# Altium footprint library Capacitors_rus.PCBLIB: 349 footprints (part 2 of 22)
Each footprint in its own frame and in the unit in brackets; x right, y up, seen from the top. Pads: shape width x height; smd on the part's side, far side on the other; paste and mask are expansions set on the pad; w line width, h text height; cw(c..) or ccw(c..) is an arc to the next point about the centre after c.
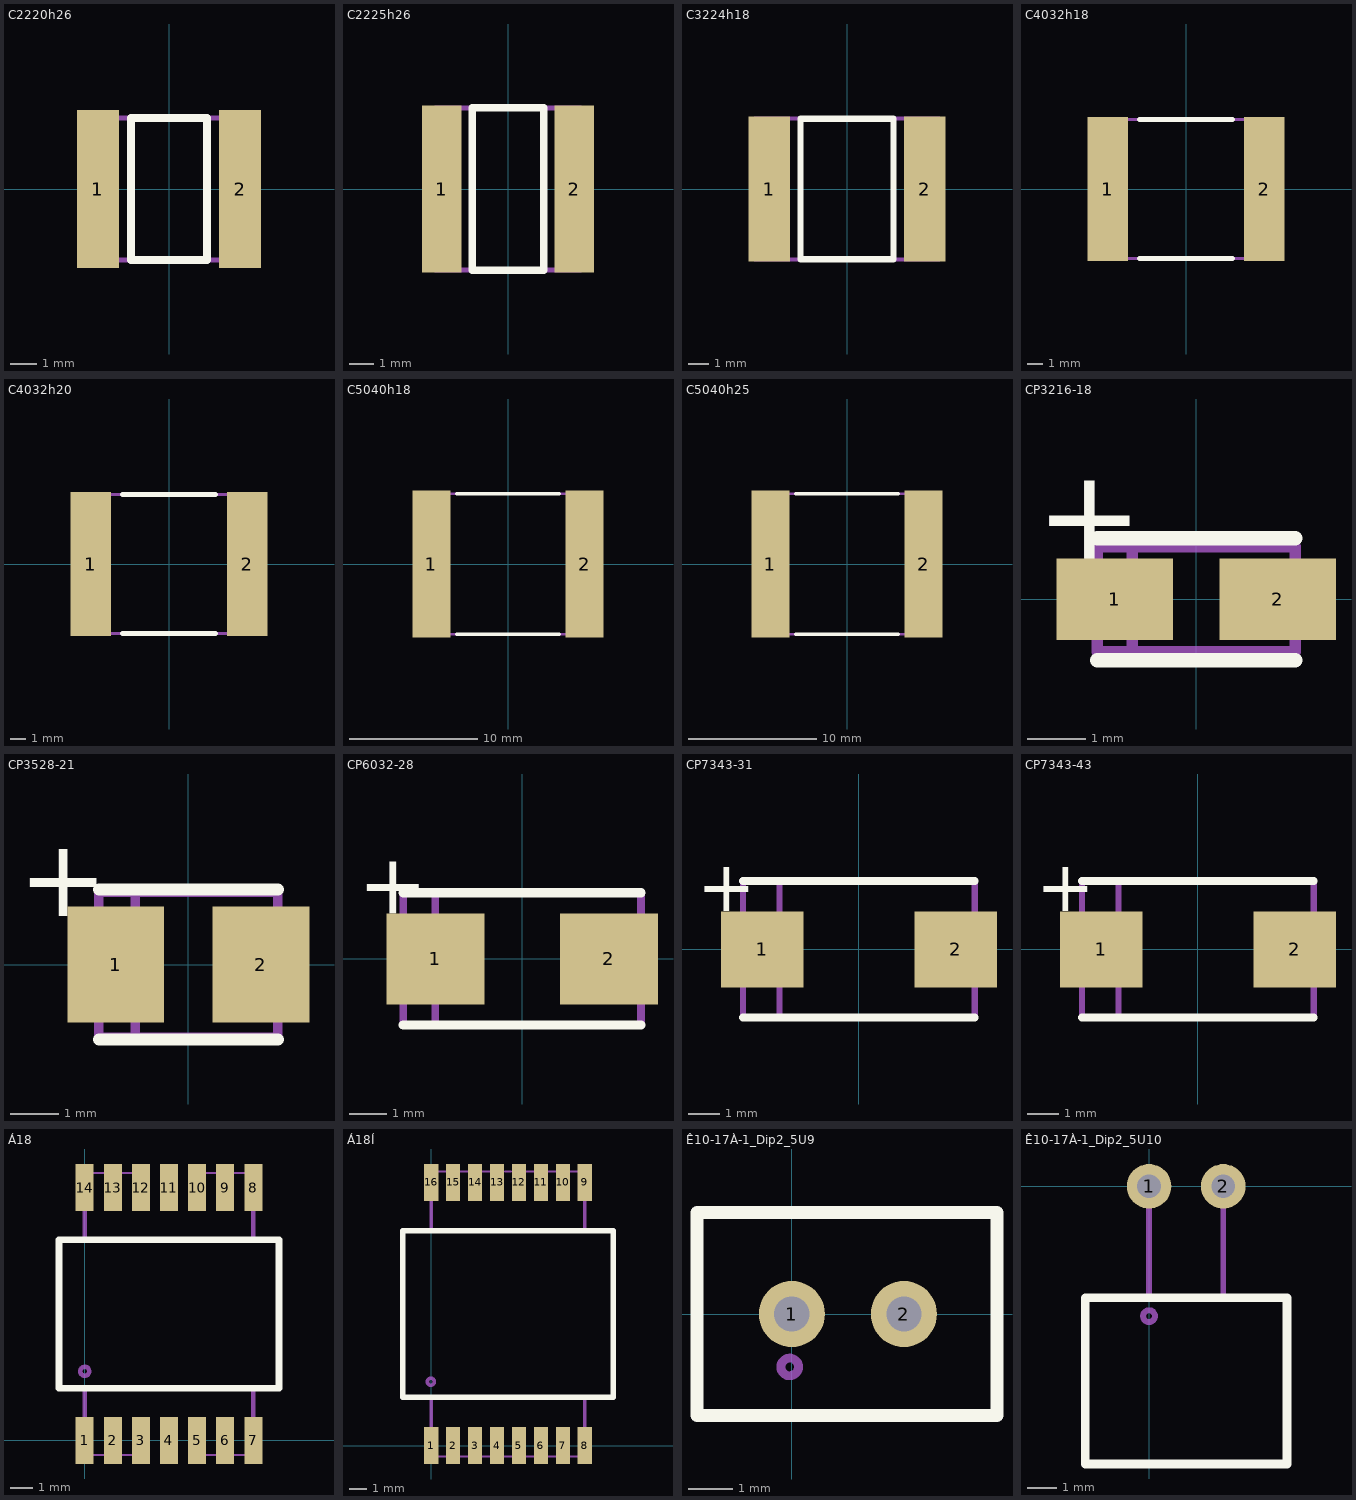
[diagram p1: the footprints below, top view; thin cyan lines are the x and y axes]

## C2220h26 [mm]
height 2.6
pads (2):
  rect 1.6x6 smd: 1(-2.7,0) 2(2.7,0)
Top Overlay:
  lines w0.3: -1.45,-2.7 1.45,-2.7 1.45,2.7 -1.45,2.7 -1.45,-2.7
Mechanical 1:
  circle w0.1: c-2.4,-0.05 r0.1
  lines w0.2: -2.95,-2.7 2.95,-2.7 2.95,2.7 -2.95,2.7 -2.95,-2.7
  text ".Designator" at -2.12,-0.5 h1.5
3D body: height 2.6, standoff 0, extent -2.95,-2.6 2.95,2.6

## C2225h26 [mm]
height 2.6
pads (2):
  rect 1.6x6.8 smd: 1(-2.7,0) 2(2.7,0)
Top Overlay:
  lines w0.3: -1.45,-3.3 1.45,-3.3 1.45,3.3 -1.45,3.3 -1.45,-3.3
Mechanical 1:
  circle w0.1: c-2.35,0 r0.1
  lines w0.2: -2.95,-3.3 2.95,-3.3 2.95,3.3 -2.95,3.3 -2.95,-3.3
  text ".Designator" at -1.87,-0.4 h1.5
3D body: height 2.6, standoff 0, extent -2.95,-3.3 2.95,3.3

## C3224h18 [mm]
height 1.8
pads (2):
  rect 2x7 smd: 1(-3.75,0) 2(3.75,0)
Top Overlay:
  lines w0.3: -2.25,-3.4 -2.25,3.4 2.25,3.4 2.25,-3.4 -2.25,-3.4
Mechanical 1:
  circle w0.1: c-3.7,0 r0.1
  lines w0.2: -4.45,-3.4 -4.45,3.4 4.45,3.4 4.45,-3.4 -4.45,-3.4
  text ".Designator" at -1.92,-0.45 h1.5
3D body: height 1.8, standoff 0, extent -4.45,-3.4 4.45,3.4

## C4032h18 [mm]
height 1.8
pads (2):
  rect 2.6x9.2 smd: 1(-5,0) 2(5,0)
Top Overlay:
  lines w0.3: -3,-4.45 3,-4.45 ; -3,4.45 3,4.45
Mechanical 1:
  circle w0.1: c-4.9,0 r0.1
  lines w0.2: -5.75,-4.45 5.75,-4.45 5.75,4.45 -5.75,4.45 -5.75,-4.45
  text ".Designator" at -1.92,-0.5 h1.5
3D body: height 1.8, standoff 0, extent -5.75,-4.45 5.75,4.45

## C4032h20 [mm]
height 2
pads (2):
  rect 2.6x9.2 smd: 1(-5,0) 2(5,0)
Top Overlay:
  lines w0.3: -3,-4.45 3,-4.45 ; -3,4.45 3,4.45
Mechanical 1:
  circle w0.1: c-4.9,0 r0.1
  lines w0.2: -5.75,-4.45 -5.75,4.45 5.75,4.45 5.75,-4.45 -5.75,-4.45
  text ".Designator" at -1.92,-0.5 h1.5
3D body: height 2, standoff 0, extent -5.75,-4.45 5.75,4.45

## C5040h18 [mm]
height 1.8
pads (2):
  rect 3x11.5 smd: 1(-6,0) 2(6,0)
Top Overlay:
  lines w0.3: -4,-5.5 4,-5.5 ; -4,5.5 4,5.5
Mechanical 1:
  circle w0.1: c-4.9,0 r0.1
  lines w0.2: -6.75,-5.5 -6.75,5.5 6.75,5.5 6.75,-5.5 -6.75,-5.5
  text ".Designator" at -1.92,-0.5 h1.5
3D body: height 1.8, standoff 0, extent -6.75,-5.5 6.75,5.5

## C5040h25 [mm]
height 2.5
pads (2):
  rect 3x11.5 smd: 1(-6,0) 2(6,0)
Top Overlay:
  lines w0.3: -4,-5.5 4,-5.5 ; -4,5.5 4,5.5
Mechanical 1:
  circle w0.1: c-4.9,0 r0.1
  lines w0.2: -6.75,-5.5 -6.75,5.5 6.75,5.5 6.75,-5.5 -6.75,-5.5
  text ".Designator" at -1.92,-0.5 h1.5
3D body: height 2.5, standoff 0, extent -6.75,-5.5 6.75,5.5

## CP3216-18 [mm]
height 1.8
pads (2):
  rect 2x1.4 smd: 1(-1.4,0) 2(1.4,0)
Top Overlay:
  lines w0.25: -1.7,-1.05 1.7,-1.05 ; -1.7,1.05 1.7,1.05
  text "+" at -2.75,0.65 h1.61
Mechanical 1:
  lines w0.2: -1.1,-0.9 -1.1,0.9 ; -1.7,-0.9 1.7,-0.9 1.7,0.9 -1.7,0.9 -1.7,-0.9
  text "+" at -0.9,-0.45 h1.5
  text ".Designator" at -1.3,1.18 h1.5
3D body: height 1.9, standoff 0, extent -1.9,-0.9 1.9,0.9

## CP3528-21 [mm]
height 2.1
pads (2):
  rect 2x2.4 smd: 1(-1.5,0) 2(1.5,0)
Top Overlay:
  lines w0.25: -1.85,-1.55 1.85,-1.55 ; -1.85,1.55 1.85,1.55
  text "+" at -3.5,1 h1.61
Mechanical 1:
  lines w0.2: -1.1,-1.5 -1.1,1.5 ; -1.85,-1.5 -1.85,1.5 1.85,1.5 1.85,-1.5 -1.85,-1.5
  text ".Designator" at -1.53,1.81 h1.5
  text "+" at -0.9,-0.45 h1.5
3D body: height 2.2, standoff 0, extent -2.05,-1.5 2.05,1.5

## CP6032-28 [mm]
height 2.8
pads (2):
  rect 2.6x2.4 smd: 1(-2.3,0) 2(2.3,0)
Top Overlay:
  lines w0.25: -3.15,-1.75 3.15,-1.75 ; -3.15,1.75 3.15,1.75
  text "+" at -4.35,1.2 h1.61
Mechanical 1:
  lines w0.2: -2.3,-1.75 -2.3,1.75 ; -3.15,-1.75 -3.15,1.75 3.15,1.75 3.15,-1.75 -3.15,-1.75
  text "+" at -2.05,-0.45 h1.5
  text ".Designator" at -0.88,-0.36 h1.5
3D body: height 2.9, standoff 0, extent -3.45,-1.75 3.45,1.75

## CP7343-31 [mm]
height 3.1
pads (2):
  rect 2.6x2.4 smd: 1(-3.05,0) 2(3.05,0)
Top Overlay:
  lines w0.25: -3.65,-2.15 3.65,-2.15 ; -3.65,2.15 3.65,2.15
  text "+" at -5.1,1.2 h1.61
Mechanical 1:
  lines w0.2: -2.5,-2 -2.5,2 ; -3.65,-2.15 -3.65,2.15 3.65,2.15 3.65,-2.15 -3.65,-2.15
  text "+" at -1.95,-0.45 h1.5
  text ".Designator" at -0.93,-0.44 h1.5
3D body: height 3.2, standoff 0, extent -4.1,-2.3 4.1,2.3

## CP7343-43 [mm]
height 4.3
pads (2):
  rect 2.6x2.4 smd: 1(-3.05,0) 2(3.05,0)
Top Overlay:
  lines w0.25: -3.65,-2.15 3.65,-2.15 ; -3.65,2.15 3.65,2.15
  text "+" at -5.1,1.2 h1.61
Mechanical 1:
  lines w0.2: -2.5,-2 -2.5,2 ; -3.65,-2.15 3.65,-2.15 3.65,2.15 -3.65,2.15 -3.65,-2.15
  text ".Designator" at -0.66,-0.4 h1.5
  text "+" at -2.05,-0.45 h1.5
3D body: height 4.4, standoff 0, extent -4.1,-2.3 4.1,2.3

## Á18 [mm]
pads (14):
  rect 0.8x2.1 smd: 1(0,0) 2(1.25,0) 3(2.5,0) 4(3.75,0) 5(5,0) 6(6.25,0) 7(7.5,0) 8(7.5,11.25) 9(6.25,11.25) 10(5,11.25) 11(3.75,11.25) 12(2.5,11.25) 13(1.25,11.25) 14(0,11.25)
Top Overlay:
  lines w0.3: -1.15,4.6 -1.15,8.925 8.65,8.925 8.65,2.325 -1.15,2.325 -1.15,4.625
Mechanical 1:
  circle w0.2: c0,3.075 r0.2
  lines w0.1: 0,-0.65 2.5,-0.65 ; 0,11.9 2.5,11.9 ; 3.55,-0.65 3.95,-0.65 ; 3.6,11.9 3.9,11.9 ; 5,-0.65 7.5,-0.65 ; 5,11.9 7.5,11.9
  lines w0.2: 0,-0.625 0,2.3 ; 0,8.9 0,11.875 ; 7.5,-0.625 7.5,2.35 ; 7.5,8.9 7.5,11.875 ; -1.15,2.325 -1.15,8.925 3.75,8.925 8.65,8.925 8.65,2.325 -1.15,2.325
  text ".Comment" at 0.28,4.3 h1.5
  text ".Designator" at 1.68,6.3 h1.5
  text "14" at 0.85,10.15 h1.5

## Á18Í [mm]
pads (16):
  rect 0.8x2.1 smd: 1(0,0) 2(1.25,0) 3(2.5,0) 4(3.75,0) 5(5,0) 6(6.25,0) 7(7.5,0) 8(8.75,0) 9(8.75,15) 10(7.5,15) 11(6.25,15) 12(5,15) 13(3.75,15) 14(2.5,15) 15(1.25,15) 16(0,15)
Top Overlay:
  lines w0.3: -1.625,2.75 -1.625,6.5 -1.625,12.25 10.375,12.25 10.375,2.75 -1.625,2.75
Mechanical 1:
  circle w0.2: c-0.02,3.64 r0.2
  lines w0.1: 0,-0.625 3.73,-0.625 ; 0.005,15.625 3.75,15.625 ; 4.175,-0.625 4.575,-0.625 ; 4.195,15.625 4.545,15.625 ; 4.995,-0.625 8.75,-0.625 ; 5,15.625 8.75,15.625
  lines w0.2: 0,-0.625 0,2.78 ; 0,12.23 0,15.625 ; 4.425,12.25 10.375,12.25 10.375,2.75 -1.625,2.75 -1.625,12.25 4.575,12.25 ; 8.75,-0.625 8.75,2.78 ; 8.75,12.225 8.75,15.625
  text "16" at 0.85,13.6 h1.5
  text ".Comment" at 0.93,6.2 h1.5
  text ".Designator" at 2.33,8.2 h1.5

## Ê10-17À-1_Dip2_5U9 [mm]
pads (2):
  round 1.5 hole 0.8: 1(0,0) 2(2.54,0)
Top Overlay:
  lines w0.3: -2.15,-2.3 4.65,-2.3 4.65,2.3 -2.15,2.3 -2.15,-2.3
Mechanical 1:
  circle w0.2: c-0.05,-1.2 r0.2
  lines w0.2: -2.15,-2.3 4.65,-2.3 4.65,2.3 -2.15,2.3 -2.15,-2.3
  text ".Designator" at -0.62,-0.25 h1.5

## Ê10-17À-1_Dip2_5U10 [mm]
pads (2):
  round 1.5 hole 0.8: 1(0,0) 2(2.5,0)
Top Overlay:
  lines w0.3: -2.15,-9.355 -2.15,-3.755 4.65,-3.755 4.65,-9.355 -2.15,-9.355
Mechanical 1:
  circle w0.2: c0,-4.375 r0.2
  lines w0.2: -2.16,-3.755 -2.15,-9.355 4.65,-9.355 4.65,-3.755 -2.15,-3.755 ; 0,-3.775 0,0 ; 2.5,-3.775 2.5,0
  text ".Designator" at -0.62,-7.15 h1.5